# Altium schematic symbol library ic.SchLib: 8 symbols
Pins are listed as number, name and electrical type; pins without a type are passive.

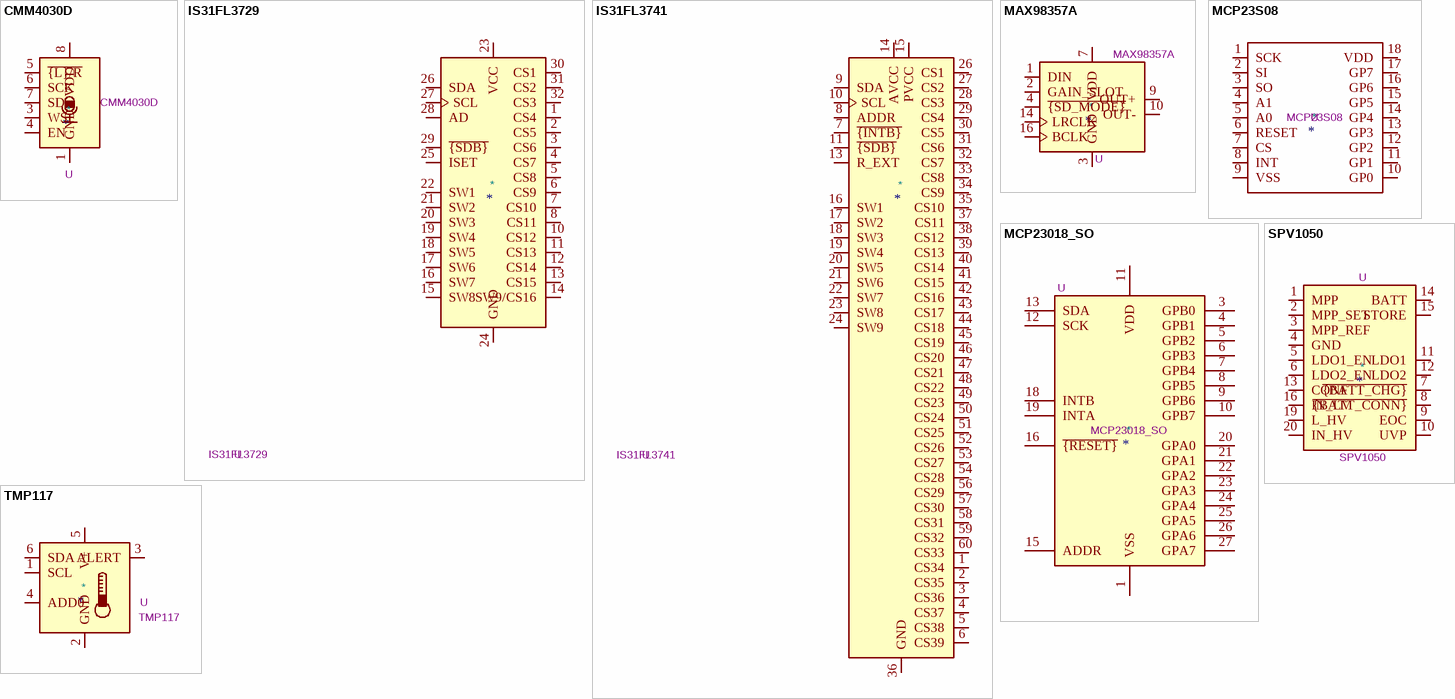
[diagram p0: symbols CMM4030D to TMP117]

## CMM4030D
designator *  value CMM4030D  Reference: U
Footprint: ic:CMM4030D_hand_solder
pins: 1 GND, 3 WS, 4 EN, 5 ~{{L}/R}, 6 SCK, 7 SD, 8 VDD

## IS31FL3729
designator *  value IS31FL3729  Reference: U
Footprint: Package_DFN_QFN:QFN-32-1EP_4x4mm_P0.4mm_EP2.9x2.9mm; Datasheet: https://www.lumissil.com/assets/pdf/core/IS31FL3729_DS.pdf
pins: 1 CS4, 2 CS5, 3 CS6, 4 CS7, 5 CS8, 6 CS9, 7 CS10, 8 CS11, 9 GND hidden, 10 CS12, 11 CS13, 12 CS14, 13 CS15, 14 SW9/CS16, 15 SW8, 16 SW7, 17 SW6, 18 SW5, 19 SW4, 20 SW3, 21 SW2, 22 SW1, 23 VCC, 24 GND, 25 ISET, 26 SDA, 27 SCL, 28 AD, 29 ~{{SDB}}, 30 CS1, 31 CS2, 32 CS3, 33 GND hidden

## IS31FL3741
designator *  value IS31FL3741  Reference: U
ki_fp_filters: QFN-60-1EP_7x7mm*; Datasheet: https://www.mouser.com/datasheet/2/198/IS31FL3741A_DS-1839558.pdf
pins: 1 CS34, 2 CS35, 3 CS36, 4 CS37, 5 CS38, 6 CS39, 7 ~{{INTB}}, 8 ADDR, 9 SDA, 10 SCL, 11 ~{{SDB}}, 12 GND hidden, 13 R_EXT, 14 AVCC, 15 PVCC, 16 SW1, 17 SW2, 18 SW3, 19 SW4, 20 SW5, 21 SW6, 22 SW7, 23 SW8, 24 SW9, 25 PVCC hidden, 26 CS1, 27 CS2, 28 CS3, 29 CS4, 30 CS5, 31 CS6, 32 CS7, 33 CS8, 34 CS9, 35 CS10, 36 GND, 37 CS11, 38 CS12, 39 CS13, 40 CS14, 41 CS15, 42 CS16, 43 CS17, 44 CS18, 45 CS19, 46 CS20, 47 CS21, 48 CS22, 49 CS23, 50 CS24, 51 CS25, 52 CS26, 53 CS27, 54 CS28, 55 GND hidden, 56 CS29, 57 CS30, 58 CS31, 59 CS32, 60 CS33, 61 GND hidden

## MAX98357A
designator *  value MAX98357A  Reference: U
ki_description: MAX98357A Tiny, Low-Cost, PCM Class D Amplifier with Class AB Performance; Footprint: Package_DFN_QFN:QFN-16-1EP_3x3mm_P0.5mm_EP1.45x1.45mm
pins: 1 DIN, 2 GAIN_SLOT, 3 GND, 4 ~{{SD_MODE}}, 7 VDD, 8 VDD hidden, 9 OUT+, 10 OUT-, 11 GND hidden, 14 LRCLK, 15 GND hidden, 16 BCLK, 17 GND hidden

## MCP23S08
designator *  value MCP23S08  Reference: U
pins: 1 SCK, 2 SI, 3 SO, 4 A1, 5 A0, 6 RESET, 7 CS, 8 INT, 9 VSS, 10 GP0, 11 GP1, 12 GP2, 13 GP3, 14 GP4, 15 GP5, 16 GP6, 17 GP7, 18 VDD

## MCP23018_SO
designator *  value MCP23018_SO  Reference: U
ki_keywords: I2C parallel port expander; ki_description: 16-bit I/O expander, I2C, interrupts, w pull-ups, SSOP-28; ki_fp_filters: SSOP*5.3x10.2mm*P0.65mm*; Footprint: Package_SO:SOIC-28W_7.5x17.9mm_P1.27mm; Datasheet: http://ww1.microchip.com/downloads/en/DeviceDoc/20001952C.pdf
pins: 1 VSS, 2 NC hidden, 3 GPB0, 4 GPB1, 5 GPB2, 6 GPB3, 7 GPB4, 8 GPB5, 9 GPB6, 10 GPB7, 11 VDD, 12 SCK, 13 SDA, 14 NC hidden, 15 ADDR, 16 ~{{RESET}}, 17 NC hidden, 18 INTB, 19 INTA, 20 GPA0, 21 GPA1, 22 GPA2, 23 GPA3, 24 GPA4, 25 GPA5, 26 GPA6, 27 GPA7, 28 NC hidden

## SPV1050
designator *  value SPV1050  Reference: U
Footprint: Package_DFN_QFN:QFN-20-1EP_3x3mm_P0.4mm_EP1.65x1.65mm
pins: 1 MPP, 2 MPP_SET, 3 MPP_REF, 4 GND, 5 LDO1_EN, 6 LDO2_EN, 7 ~{{BATT_CHG}}, 8 ~{{BATT_CONN}}, 9 EOC, 10 UVP, 11 LDO1, 12 LDO2, 13 CONF, 14 BATT, 15 STORE, 16 IN_LV, 18 GND hidden, 19 L_HV, 20 IN_HV, 21 GND hidden

## TMP117
designator *  value TMP117  Reference: U
ki_keywords: temperature sensor i2c smbus; ki_description: High Accuracy Temperature Sensor with I2C/SMBus Interface, WSON-6; ki_fp_filters: SOT?23*; Footprint: Package_SON:WSON-6-1EP_2x2mm_P0.65mm_EP1x1.6mm; Datasheet: http://www.ti.com/lit/gpn/tmp117
pins: 1 SCL, 2 GND, 3 ALERT, 4 ADD0, 5 V+, 6 SDA, 7 GND hidden